# Altium schematic symbol library MBRD10200CT-13.SchLib: 2 symbols
Pins are listed as number, name and electrical type; pins without a type are passive.

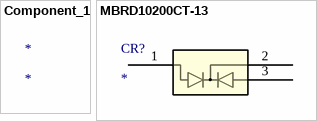
[diagram p0: symbols Component_1 to MBRD10200CT-13]

## Component_1
designator *

## MBRD10200CT-13
designator CR?
No Description Available; Mfr_Name: Diodes Inc; Type: Diodes - Rectifiers, Arrays; RefDes: RefDes
footprint TO252(DPAK)_DIO
pins: 1, 2, 3